# EAGLE library part DIMM-M3 (library con-hirose-dxlm)
AMP connector
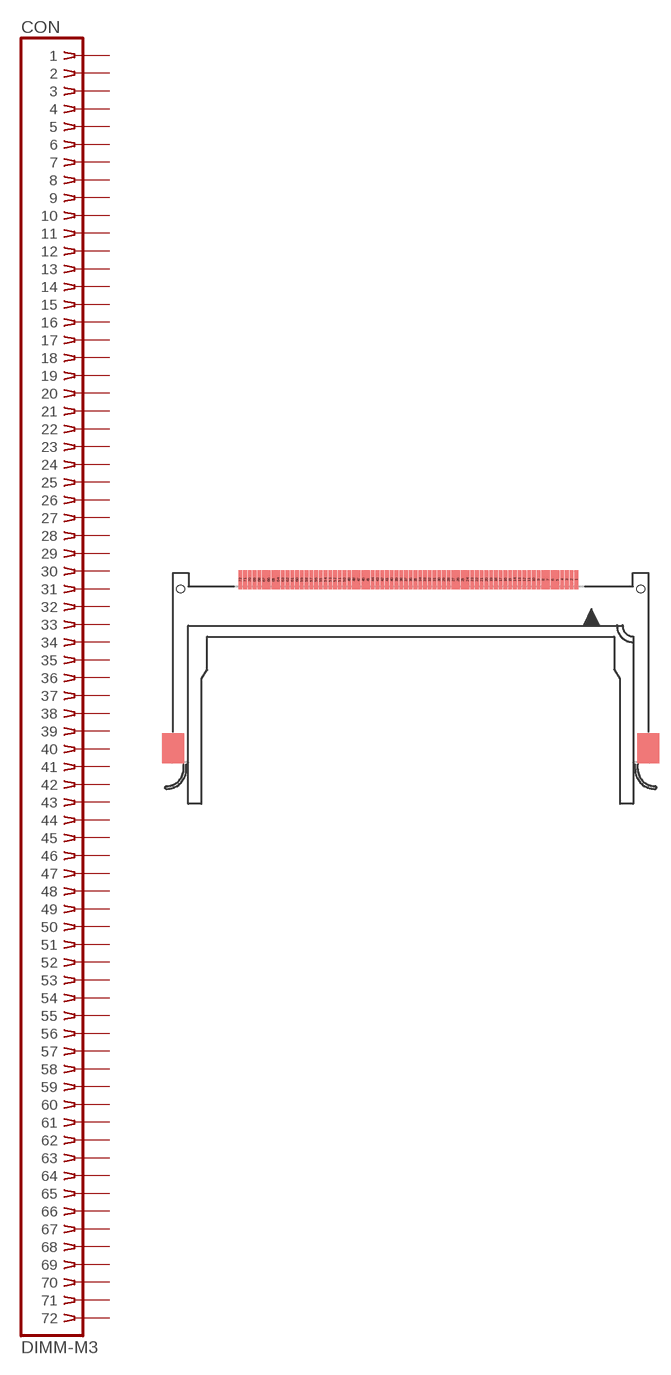
[diagram p19: symbol with the pads of 177827-1; footprint 177827-1]

Designator prefix CON

## DIMM-M3  [177827-1]
1  1  pas
2  2  pas
3  3  pas
4  4  pas
5  5  pas
6  6  pas
7  7  pas
8  8  pas
9  9  pas
10  10  pas
11  11  pas
12  12  pas
13  13  pas
14  14  pas
15  15  pas
16  16  pas
17  17  pas
18  18  pas
19  19  pas
20  20  pas
21  21  pas
22  22  pas
23  23  pas
24  24  pas
25  25  pas
26  26  pas
27  27  pas
28  28  pas
29  29  pas
30  30  pas
31  31  pas
32  32  pas
33  33  pas
34  34  pas
35  35  pas
36  36  pas
37  37  pas
38  38  pas
39  39  pas
40  40  pas
41  41  pas
42  42  pas
43  43  pas
44  44  pas
45  45  pas
46  46  pas
47  47  pas
48  48  pas
49  49  pas
50  50  pas
51  51  pas
52  52  pas
53  53  pas
54  54  pas
55  55  pas
56  56  pas
57  57  pas
58  58  pas
59  59  pas
60  60  pas
61  61  pas
62  62  pas
63  63  pas
64  64  pas
65  65  pas
66  66  pas
67  67  pas
68  68  pas
69  69  pas
70  70  pas
71  71  pas
72  72  pas

## Footprint 177827-1 (pad centres in mm)
DIMM Mini Memory Module M3
smd 0.508 x 2.54: 1 22.225,1.27; 2 21.59,1.27; 3 20.955,1.27; 4 20.32,1.27; 5 19.685,1.27; 6 19.05,1.27; 7 18.415,1.27; 8 17.78,1.27; 9 17.145,1.27; 10 16.51,1.27; 11 15.875,1.27; 12 15.24,1.27; 13 14.605,1.27; 14 13.97,1.27; 15 13.335,1.27; 16 12.7,1.27; 17 12.065,1.27; 18 11.43,1.27; 19 10.795,1.27; 20 10.16,1.27; 21 9.525,1.27; 22 8.89,1.27; 23 8.255,1.27; 24 7.62,1.27; 25 6.985,1.27; 26 6.35,1.27; 27 5.715,1.27; 28 5.08,1.27; 29 4.445,1.27; 30 3.81,1.27; 31 3.175,1.27; 32 2.54,1.27; 33 1.905,1.27; 34 1.27,1.27; 35 0.635,1.27; 36 0,1.27; 37 -0.635,1.27; 38 -1.27,1.27; 39 -1.905,1.27; 40 -2.54,1.27; 41 -3.175,1.27; 42 -3.81,1.27; 43 -4.445,1.27; 44 -5.08,1.27; 45 -5.715,1.27; 46 -6.35,1.27; 47 -6.985,1.27; 48 -7.62,1.27; 49 -8.255,1.27; 50 -8.89,1.27; 51 -9.525,1.27; 52 -10.16,1.27; 53 -10.795,1.27; 54 -11.43,1.27; 55 -12.065,1.27; 56 -12.7,1.27; 57 -13.335,1.27; 58 -13.97,1.27; 59 -14.605,1.27; 60 -15.24,1.27; 61 -15.875,1.27; 62 -16.51,1.27; 63 -17.145,1.27; 64 -17.78,1.27; 65 -18.415,1.27; 66 -19.05,1.27; 67 -19.685,1.27; 68 -20.32,1.27; 69 -20.955,1.27; 70 -21.59,1.27; 71 -22.225,1.27; 72 -22.86,1.27
hole 1.016 at -30.861,0
hole 1.016 at 30.861,0